# EAGLE library part SN74LVC2G241 (library eagle-book)
Dual Buffer/Driver With 3-State Outputs
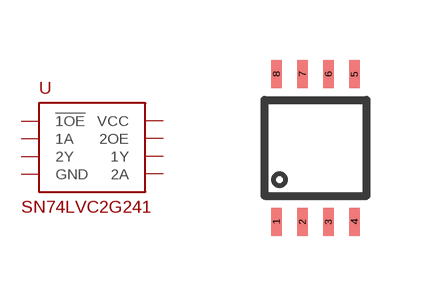
[diagram p18: symbol with the pads of R-PDSO-G8-LVC2; footprint R-PDSO-G8-LVC2]

Designator prefix U

## SN74LVC2G241DCU  [R-PDSO-G8-LVC2]
1  !1OE
2  1A
3  2Y
4  GND  pwr
5  2A
6  1Y
7  2OE
8  VCC  pwr

## Footprint R-PDSO-G8-LVC2 (pad centres in mm)
8-pin plastic small outline package
smd 0.26 x 0.7: 1 -0.975,-1.85; 2 -0.325,-1.85; 3 0.325,-1.85; 4 0.975,-1.85; 5 0.975,1.85; 6 0.325,1.85; 7 -0.325,1.85; 8 -0.975,1.85